# Altium schematic symbol library DIPSW3.Schlib: 1 symbol
Pins are listed as number, name and electrical type; pins without a type are passive.

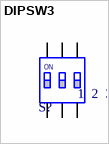
[diagram p0: symbol DIPSW3]

## DIPSW3
designator S?
pins: 1 A1, 2 A2, 3 A2, 4 B2, 5 B2, 6 B1
text: ON; 1  2  3